# Altium footprint library X1.PcbLib: 6 footprints
Each footprint in its own frame and in the unit in brackets; x right, y up, seen from the top. Pads: shape width x height; smd on the part's side, far side on the other; paste and mask are expansions set on the pad; w line width, h text height; cw(c..) or ccw(c..) is an arc to the next point about the centre after c.
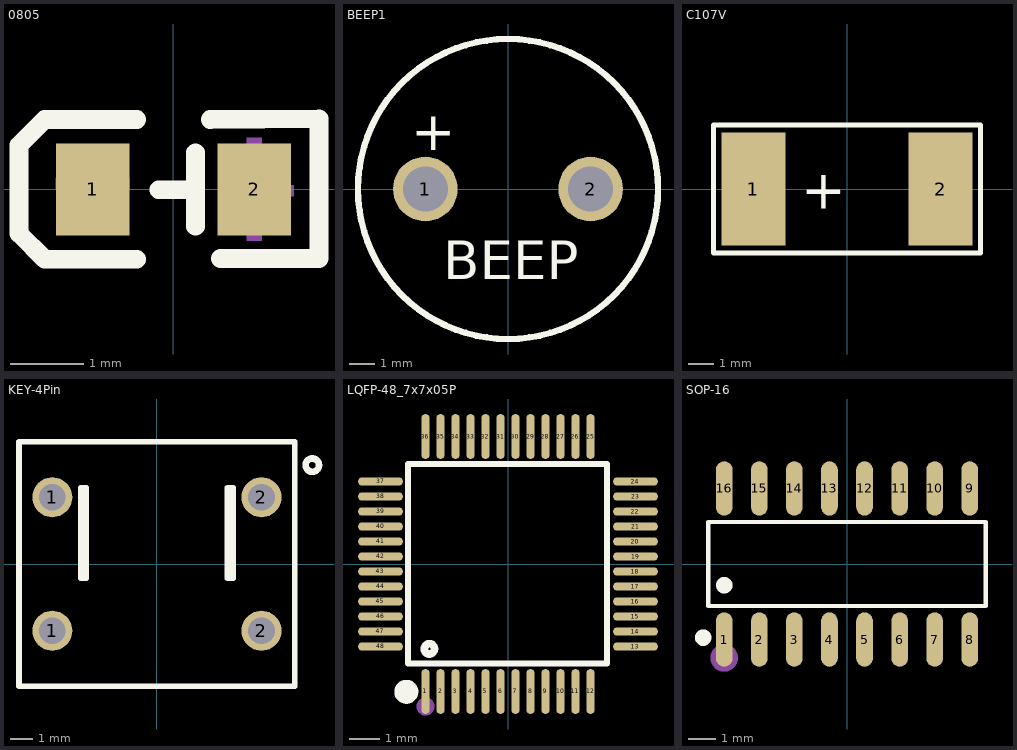
[diagram p0: the footprints below, top view; thin cyan lines are the x and y axes]

## 0805 [mm]
pads (2):
  rect 1x1.25 smd: 1(-1.1,0) 2(1.1,0)
Top Overlay:
  lines w0.254: -0.5,-0.95 -1.75,-0.95 ; -0.5,0.95 -1.75,0.95 ; -0.2,-0.005 0.3,-0.005 ; 0.3,-0.5 0.3,0.5 ; 0.5,0.95 1.98,0.96 1.98,-0.94 0.64,-0.94 ; -1.75,-0.95 -1.75,-0.95 ; -1.75,-0.95 -2.1,-0.6 -2.1,0.6 -1.75,0.95 ; -1.75,0.95 -1.75,0.95
Mechanical 15:
  region: 1,0.7 1.2,0.7 1.2,-0.7 1,-0.7
  region: 0.635,-0.094 1.635,-0.094 1.635,0.056 0.635,0.056
  region: -1.6,0 -0.6,0 -0.6,0.15 -1.6,0.15

## BEEP1 [mm]
pads (2):
  round 2.54 hole 1.778: 1(-3.25,0) 2(3.25,0)
Top Overlay:
  circle w0.254: c0,0 r5.9
  text "+" at -3.81,1.524 h1.52
  text "BEEP" at -2.54,-3.556 h1.52

## C107V [mm]
pads (2):
  rect 2.5x4.4 smd: 1(-3.65,0) 2(3.65,0)
Top Overlay:
  lines w0.2: -5.2,-2.5 -5.2,0 -5.2,2.5 5.2,2.5 5.2,-2.5 -5.2,-2.5
  text "+" at -1.778,-0.762 h1.52

## KEY-4Pin [mm]
pads (4):
  round 1.8 hole 1.2: 1(-4.7,-3) 1(-4.7,3) 2(4.7,-3) 2(4.7,3)
Top Overlay:
  circle w0.3: c6.985,4.445 r0.3
  lines w0.254: -6.2,-5.5 -6.2,5.5 6.2,5.5 6.2,-5.5 -6.2,-5.5 ; -3.429,-0.635 -3.429,3.429 -3.175,3.429 -3.175,-0.635 -3.429,-0.635 ; 3.175,-0.635 3.175,3.429 3.429,3.429 3.429,-0.635 3.175,-0.635

## LQFP-48_7x7x05P [mm]
pads (48):
  oval 0.27x1.5 smd: 1(-2.75,-4.25) 2(-2.25,-4.25) 3(-1.75,-4.25) 4(-1.25,-4.25) 5(-0.75,-4.25) 6(-0.25,-4.25) 7(0.25,-4.25) 8(0.75,-4.25) 9(1.25,-4.25) 10(1.75,-4.25) 11(2.25,-4.25) 12(2.75,-4.25) 25(2.75,4.25) 26(2.25,4.25) 27(1.75,4.25) 28(1.25,4.25) 29(0.75,4.25) 30(0.25,4.25) 31(-0.25,4.25) 32(-0.75,4.25) 33(-1.25,4.25) 34(-1.75,4.25) 35(-2.25,4.25) 36(-2.75,4.25)
  oval 1.5x0.27 smd: 13(4.25,-2.75) 14(4.25,-2.25) 15(4.25,-1.75) 16(4.25,-1.25) 17(4.25,-0.75) 18(4.25,-0.25) 19(4.25,0.25) 20(4.25,0.75) 21(4.25,1.25) 22(4.25,1.75) 23(4.25,2.25) 24(4.25,2.75) 37(-4.25,2.75) 38(-4.25,2.25) 39(-4.25,1.75) 40(-4.25,1.25) 41(-4.25,0.75) 42(-4.25,0.25) 43(-4.25,-0.25) 44(-4.25,-0.75) 45(-4.25,-1.25) 46(-4.25,-1.75) 47(-4.25,-2.25) 48(-4.25,-2.75)
Top Overlay:
  circle w0.254: c-2.62,-2.83 r0.17
  lines w0.2: -2.896,3.34 3.302,3.34 3.302,-3.315 -3.327,-3.315 -3.327,3.34 -2.565,3.34
  lines w0.4: -3.39,-4.06 ccw(c-3.389,-4.26) -3.387,-4.06
Mechanical 15:
  circle w0.3: c-2.75,-4.75 r0.15

## SOP-16 [mm]
pads (16):
  oval 0.602x1.971 smd: 1(-4.445,-2.736) 2(-3.175,-2.736) 3(-1.905,-2.736) 4(-0.635,-2.736) 5(0.635,-2.736) 6(1.905,-2.736) 7(3.175,-2.736) 8(4.445,-2.736) 9(4.445,2.736) 10(3.175,2.736) 11(1.905,2.736) 12(0.635,2.736) 13(-0.635,2.736) 14(-1.905,2.736) 15(-3.175,2.736) 16(-4.445,2.736)
Top Overlay:
  circle w0.3: c-5.207,-2.667 r0.15
  circle w0.3: c-4.445,-0.769 r0.15
  lines w0.152: -5.026,-1.521 5.026,-1.521 5.026,1.521 -5.026,1.521 -5.026,-1.521
Mechanical 15:
  circle w0.5: c-4.445,-3.4 r0.25